# EAGLE library part B10P-VH (library con-jst)
VH Connector - 0.156"
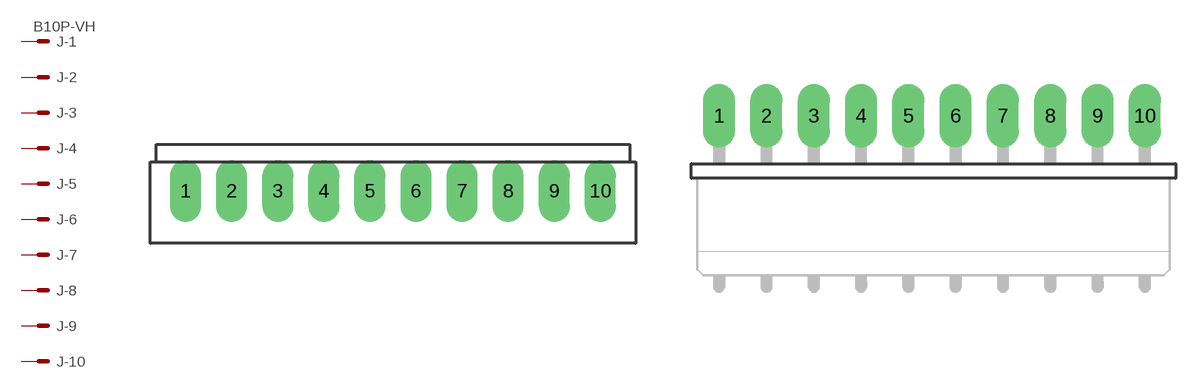
[diagram p45: symbol with the pads of B10P; footprints B10P, B10PS]

Designator prefix J; gates -1=KV -2=K -3=K -4=K -5=K -6=K -7=K -8=K -9=K -10=K

## B10P-VH  [B10P]
1  -1:S  pas
2  -2:S  pas
3  -3:S  pas
4  -4:S  pas
5  -5:S  pas
6  -6:S  pas
7  -7:S  pas
8  -8:S  pas
9  -9:S  pas
10  -10:S  pas

## B10P-VHS  [B10PS]
Pads as for B10P

## Footprint B10P (pad centres in mm)
VH Series - 0.156" Pitch
drill 1.778 long: 1 -17.831,0; 2 -13.868,0; 3 -9.906,0; 4 -5.944,0; 5 -1.981,0; 6 1.981,0; 7 5.944,0; 8 9.906,0; 9 13.868,0; 10 17.831,0

## Footprint B10PS (pad centres in mm)
VH Series - 0.156" Pitch - right angle
drill 1.778 long: 1 -17.831,0; 2 -13.868,0; 3 -9.906,0; 4 -5.944,0; 5 -1.981,0; 6 1.981,0; 7 5.944,0; 8 9.906,0; 9 13.868,0; 10 17.831,0